# EAGLE library part MCP23S17-E/SS (library 2022-12-05_14-57-04_Library)
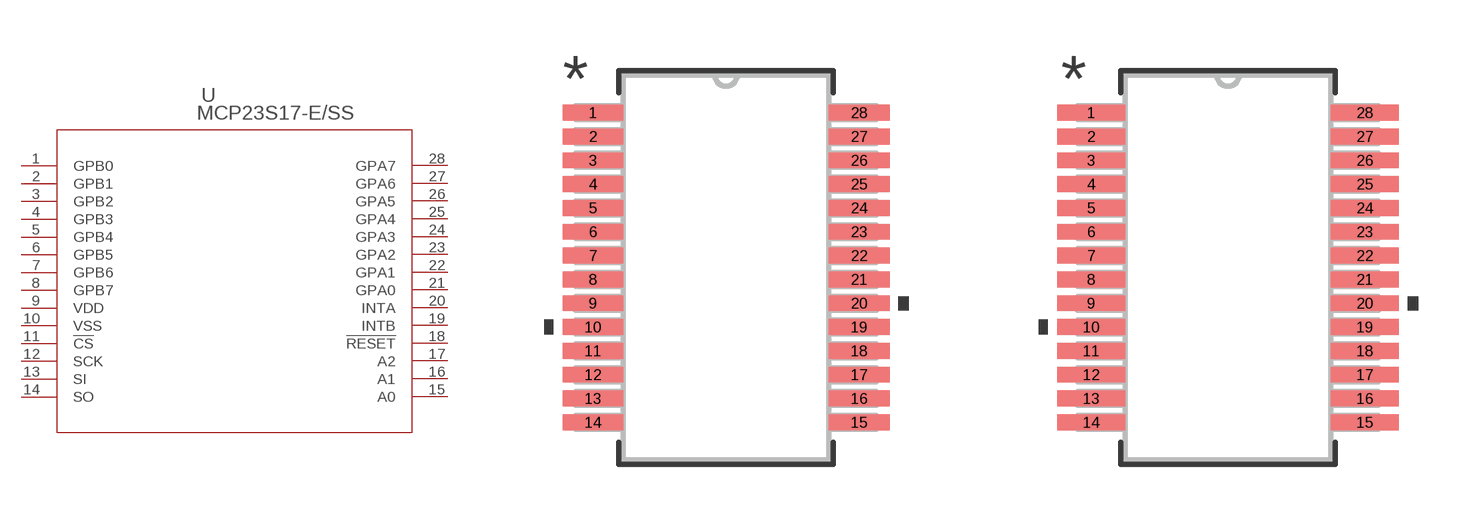
[diagram p0: symbol with the pads of SSOP28_MC_MCH; footprints SSOP28_MC_MCH, SSOP28_MC_MCH-M]

Designator prefix U

## MCP23S17-E/SSSSOP28_MC_MCH (Copyright: Copyright (C) 2022 Ultra Librarian. All rights reserved.; Manufacturer_Part_Number: MCP23S17-E/SS; Mfr_Name: Microchip)  [SSOP28_MC_MCH]
1  GPB0  pas
2  GPB1  pas
3  GPB2  pas
4  GPB3  pas
5  GPB4  pas
6  GPB5  pas
7  GPB6  pas
8  GPB7  pas
9  VDD  pas
10  VSS  pas
11  !CS  pas
12  SCK  pas
13  SI  pas
14  SO  pas
15  A0  pas
16  A1  pas
17  A2  pas
18  !RESET  pas
19  INTB  pas
20  INTA  pas
21  GPA0  pas
22  GPA1  pas
23  GPA2  pas
24  GPA3  pas
25  GPA4  pas
26  GPA5  pas
27  GPA6  pas
28  GPA7  pas

## MCP23S17-E/SSSSOP28_MC_MCH-M (Copyright: Copyright (C) 2022 Ultra Librarian. All rights reserved.; Manufacturer_Part_Number: MCP23S17-E/SS; Mfr_Name: Microchip)  [SSOP28_MC_MCH-M]
Pads as for SSOP28_MC_MCH

## MCP23S17-E/SSSSOP28_MC_MCH-L (Copyright: Copyright (C) 2022 Ultra Librarian. All rights reserved.; Manufacturer_Part_Number: MCP23S17-E/SS; Mfr_Name: Microchip)  [SSOP28_MC_MCH-L]
Pads as for SSOP28_MC_MCH

## Footprint SSOP28_MC_MCH (pad centres in mm)
smd 1.656 x 0.432: 1 -3.628,4.225; 2 -3.628,3.575; 3 -3.628,2.925; 4 -3.628,2.275; 5 -3.628,1.625; 6 -3.628,0.975; 7 -3.628,0.325; 8 -3.628,-0.325; 9 -3.628,-0.975; 10 -3.628,-1.625; 11 -3.628,-2.275; 12 -3.628,-2.925; 13 -3.628,-3.575; 14 -3.628,-4.225; 15 3.628,-4.225; 16 3.628,-3.575; 17 3.628,-2.925; 18 3.628,-2.275; 19 3.628,-1.625; 20 3.628,-0.975; 21 3.628,-0.325; 22 3.628,0.325; 23 3.628,0.975; 24 3.628,1.625; 25 3.628,2.275; 26 3.628,2.925; 27 3.628,3.575; 28 3.628,4.225

## Footprint SSOP28_MC_MCH-M (pad centres in mm)
smd 1.859 x 0.432: 1 -3.729,4.225; 2 -3.729,3.575; 3 -3.729,2.925; 4 -3.729,2.275; 5 -3.729,1.625; 6 -3.729,0.975; 7 -3.729,0.325; 8 -3.729,-0.325; 9 -3.729,-0.975; 10 -3.729,-1.625; 11 -3.729,-2.275; 12 -3.729,-2.925; 13 -3.729,-3.575; 14 -3.729,-4.225; 15 3.729,-4.225; 16 3.729,-3.575; 17 3.729,-2.925; 18 3.729,-2.275; 19 3.729,-1.625; 20 3.729,-0.975; 21 3.729,-0.325; 22 3.729,0.325; 23 3.729,0.975; 24 3.729,1.625; 25 3.729,2.275; 26 3.729,2.925; 27 3.729,3.575; 28 3.729,4.225

## Footprint SSOP28_MC_MCH-L (pad centres in mm)
smd 1.372 x 0.381: 1 -3.567,4.225; 2 -3.567,3.575; 3 -3.567,2.925; 4 -3.567,2.275; 5 -3.567,1.625; 6 -3.567,0.975; 7 -3.567,0.325; 8 -3.567,-0.325; 9 -3.567,-0.975; 10 -3.567,-1.625; 11 -3.567,-2.275; 12 -3.567,-2.925; 13 -3.567,-3.575; 14 -3.567,-4.225; 15 3.567,-4.225; 16 3.567,-3.575; 17 3.567,-2.925; 18 3.567,-2.275; 19 3.567,-1.625; 20 3.567,-0.975; 21 3.567,-0.325; 22 3.567,0.325; 23 3.567,0.975; 24 3.567,1.625; 25 3.567,2.275; 26 3.567,2.925; 27 3.567,3.575; 28 3.567,4.225